# Altium footprint library buzzer.PcbLib: 7 footprints
Each footprint in its own frame and in the unit in brackets; x right, y up, seen from the top. Pads: shape width x height; smd on the part's side, far side on the other; paste and mask are expansions set on the pad; w line width, h text height; cw(c..) or ccw(c..) is an arc to the next point about the centre after c.
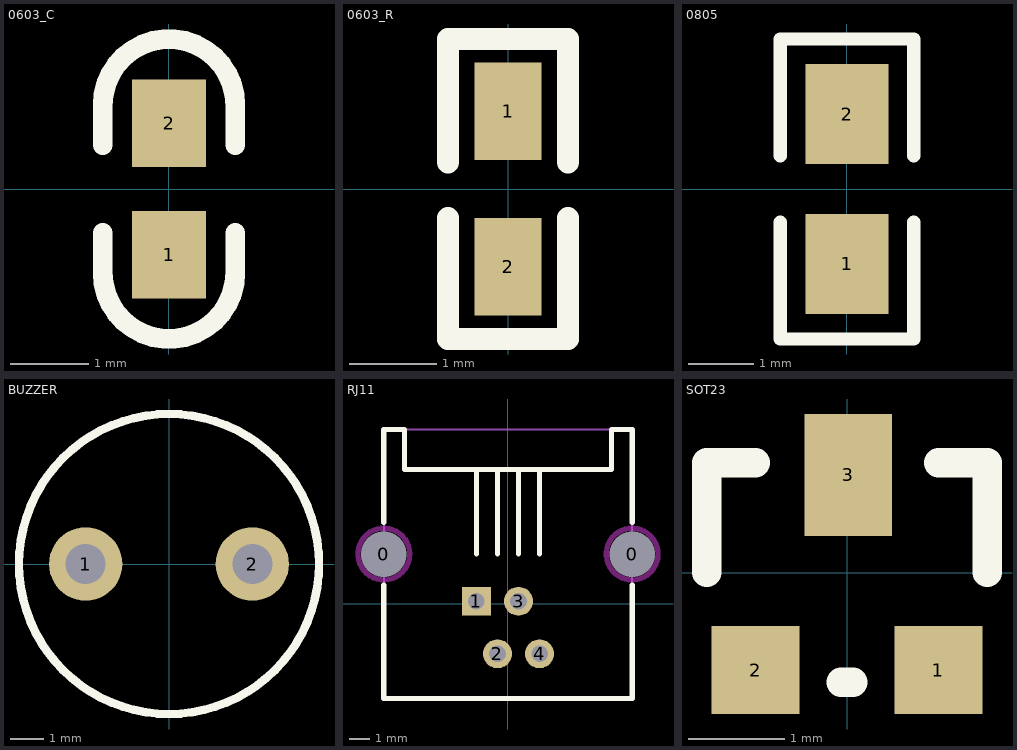
[diagram p0: the footprints below, top view; thin cyan lines are the x and y axes]

## 0603_C [mil]
pads (2):
  rect 37x44 smd: 1(0,-33) 2(0,33)
Top Overlay:
  lines w10: -33.24,-22 -33.24,-42 ccw(c0,-42) 33.24,-42 33.24,-22 ; -33.24,22 -33.24,42 cw(c0,42) 33.24,42 33.24,22

## 0603_R [mil]
pads (2):
  rect 30x44 smd: 1(0,35) 2(0,-35)
Top Overlay:
  lines w10: -27,-13 -27,-67.5 27,-67.5 27,-13 ; -27,12 -27,67.5 27,67.5 27,12
3D body: height 20.79, standoff 0, extent -19.45,-52.22 19.92,50.14

## 0805 [mil]
pads (2):
  rect 50x60 smd: 1(0,-45) 2(0,45)
Top Overlay:
  lines w8: -40,-20 -40,-90 40,-90 40,-20 ; -40,20 -40,90 40,90 40,20

## BUZZER [mm]
pads (2):
  round 2.2 hole 1.2: 1(-2.5,0) 2(2.5,0)
Top Overlay:
  lines w0.254: -4.5,0 cw(c0,0) 0,4.5 cw(c0,0) 4.5,0 cw(c0,0) 0,-4.5 cw(c0,0) -4.5,0

## M2 [mil]
via 0,0 diameter 118.11 hole 94.49

## RJ11 [mm]
pads (6):
  round 2.1 hole 2.2 unplated: 0(-6,2.41) 0(6,2.41)
  rect 1.397x1.397 hole 0.8: 1(-1.524,0.13)
  round 1.397 hole 0.8: 2(-0.508,-2.41) 3(0.508,0.13) 4(1.524,-2.41)
Top Overlay:
  lines w0.254: -6,0.906 -6,-4.57 6,-4.57 6,0.906 ; -6,3.954 -6,8.43 -5,8.43 -5,6.494 5,6.494 5,8.43 6,8.43 6,3.954 ; -1.524,2.43 -1.524,6.494 ; -0.508,2.43 -0.508,6.494 ; 0.508,2.43 0.508,6.494 ; 1.524,2.43 1.524,6.494
Keep-Out Layer:
  circle w0.254: c6,2.41 r1.25
  circle w0.254: c-6,2.41 r1.25
Mechanical 1:
  lines w0.102: -6,-4.57 -6,8.43 6,8.43 6,-4.57 -6,-4.57
  text "4" at 1.524,7.002 h1
  text "1" at -2.032,7.002 h1
  text "4" at 1.27,-3.158 h1
  text "3" at 0.254,2.43 h1
  text "2" at -0.762,-3.158 h1
  text "1" at -1.778,2.43 h1

## SOT23 [mil]
pads (3):
  rect 36x36 smd: 1(37.5,-40) 2(-37.5,-40)
  rect 36x50 smd: 3(0.5,40)
Top Overlay:
  lines w12: -57.5,0 -57.5,45 -37.5,45 ; -2.5,-45 2.5,-45 ; 37.5,45 57.5,45 57.5,0